# Altium schematic symbol library Basic_components_hrishi.SchLib: 32 symbols
Pins are listed as number, name and electrical type; pins without a type are passive.

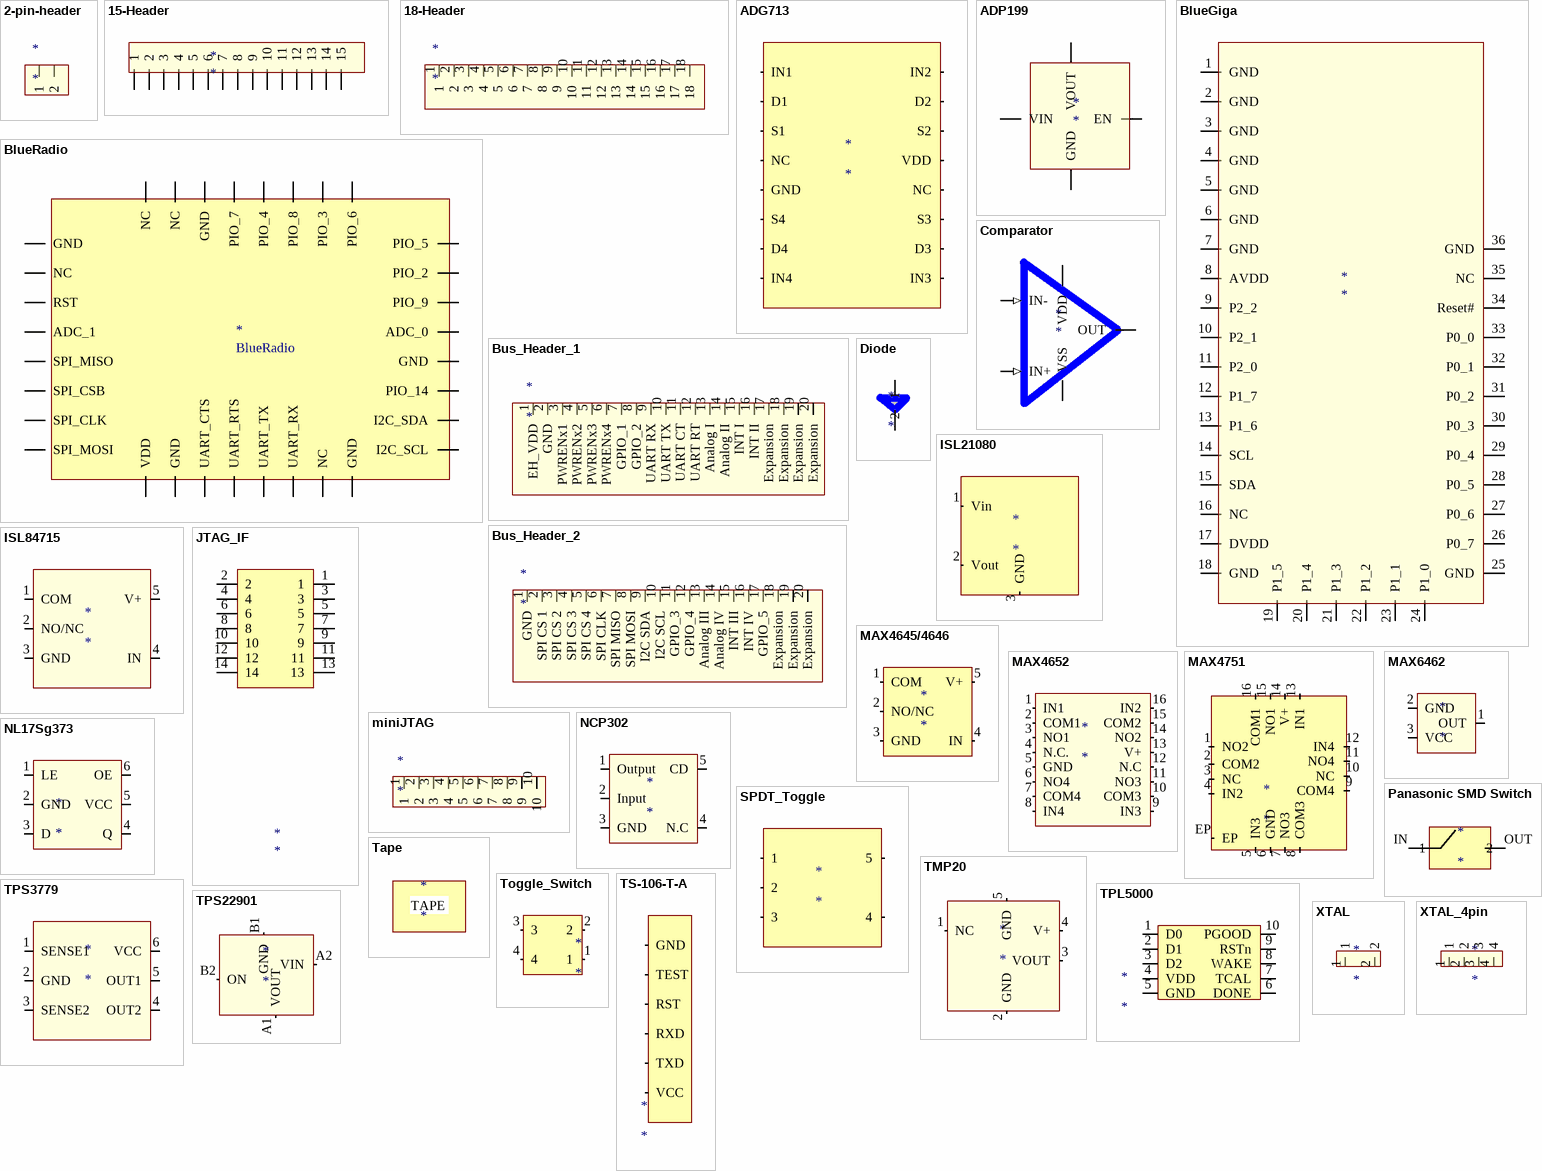
[diagram p0: symbols 2-pin-header to XTAL_4pin]

## 2-pin-header
designator *
footprint SMT 2-PIN
footprint 2-pin DIP
footprint Diode 2_DIP
pins: 1, 2

## 15-Header
designator *
footprint SIP-15
pins: ?1 1, ?2 2, ?3 3, ?4 4, ?5 5, ?6 6, ?7 7, ?8 8, ?9 9, ?10 10, ?11 11, ?12 12, ?13 13, ?14 14, ?15 15

## 18-Header
designator *
footprint SMT_18_micro_header
pins: 1, 2, 3, 4, 5, 6, 7, 8, 9, 10, 11, 12, 13, 14, 15, 16, 17, 18

## ADG713
designator *
footprint SOIC127P600X175-16N (SOIC, 16-Leads, Body 9.90x3.90mm, Pitch 1.27mm, IPC Medium Density)
pins: 1 IN1, 2 D1, 3 S1, 4 NC, 5 GND, 6 S4, 7 D4, 8 IN4, 9 IN3, 10 D3, 11 S3, 12 NC, 13 VDD, 14 S2, 15 D2, 16 IN2

## ADP199
designator *
footprint WLCSP2X2_77X77X56 (BGA, 4-Leads, Body 0.77x0.77mmx0.56mm, Pitch 0.40mm)
pins: ?1 VIN, ?2 VOUT, ?3 EN, ?4 GND

## BlueGiga
designator *
footprint BlueGiga
pins: 1 GND, 2 GND, 3 GND, 4 GND, 5 GND, 6 GND, 7 GND, 8 AVDD (power), 9 P2_2, 10 P2_1, 11 P2_0, 12 P1_7, 13 P1_6, 14 SCL, 15 SDA, 16 NC, 17 DVDD (power), 18 GND, 19 P1_5, 20 P1_4, 21 P1_3, 22 P1_2, 23 P1_1, 24 P1_0, 25 GND, 26 P0_7, 27 P0_6, 28 P0_5, 29 P0_4, 30 P0_3, 31 P0_2, 32 P0_1, 33 P0_0, 34 Reset#, 35 NC, 36 GND

## BlueRadio
designator *
footprint BlueRadio (BLES3A)
pins: ?1 GND (power), ?2 NC, ?3 RST, ?4 ADC_1, ?5 SPI_MISO, ?6 SPI_CSB, ?7 SPI_CLK, ?8 SPI_MOSI, ?9 VDD (power), ?10 GND (power), ?11 UART_CTS, ?12 UART_RTS, ?13 UART_TX, ?14 UART_RX, ?15 NC, ?16 GND (power), ?17 I2C_SCL, ?18 I2C_SDA, ?19 PIO_14, ?20 GND, ?21 ADC_0, ?22 PIO_9, ?23 PIO_2, ?24 PIO_5, ?25 PIO_6, ?26 PIO_3, ?27 PIO_8, ?28 PIO_4, ?29 PIO_7, ?30 GND (power), ?31 NC, ?32 NC

## Bus_Header_1
designator *
footprint SAMTEC_20_10x2
footprint SAMTEC_20_10x2_BOT
footprint Male Single row 20 pin header
footprint SMT 20 -pin single row female header
pins: 1 EH_VDD, 2 GND, 3 PWRENx1, 4 PWRENx2, 5 PWRENx3, 6 PWRENx4, 7 GPIO_1, 8 GPIO_2, 9 UART RX, 10 UART TX, 11 UART CT, 12 UART RT, 13 Analog I, 14 Analog II, 15 INT I, 16 INT II, 17 Expansion, 18 Expansion, 19 Expansion, 20 Expansion

## Bus_Header_2
designator *
footprint SAMTEC_20_10x2
footprint SAMTEC_20_10x2_BOT
footprint SMT 20 -pin single row female header
footprint Male Single row 20 pin header
pins: 1 GND, 2 SPI CS 1, 3 SPI CS 2, 4 SPI CS 3, 5 SPI CS 4, 6 SPI CLK, 7 SPI MISO, 8 SPI MOSI, 9 I2C SDA, 10 I2C SCL, 11 GPIO_3, 12 GPIO_4, 13 Analog III, 14 Analog IV, 15 INT III, 16 INT IV, 17 GPIO_5, 18 Expansion, 19 Expansion, 20 Expansion

## Comparator
designator *
footprint SOT-23-OT5_M (SOT23, 5-Leads, Body 2.9x1.7mm, Pitch 0.95mm, Lead Span 2.8mm, IPC Low Density)
pins: ?1 OUT (oc), ?2 VDD (power), ?3 VSS (power), ?4 IN- (in), ?5 IN+ (in)

## Diode
designator *
footprint TSOP127P250X110-2N (TSOP, 2-Leads, Body 1.30x1.70mm, Pitch 1.27mm, IPC Medium Density)
pins: 1, 2

## ISL21080
designator *
footprint SOT95P240X110-3N (SOT23, 3-Leads, Body 2.90x2.40mm, Pitch 0.95mm, IPC Medium Density)
pins: 1 Vin, 2 Vout, 3 GND

## ISL84715
designator *
footprint ISL84715
pins: 1 COM, 2 NO/NC, 3 GND, 4 IN, 5 V+

## JTAG_IF
designator *
footprint DIP14
footprint JTAG_14SMD
pins: 1, 2, 3, 4, 5, 6, 7, 8, 9, 10, 11, 12, 13, 14

## MAX4645/4646
designator *
footprint SOT95P280X145-5N (SOT23, 5-Leads, Body 2.90x2.80mm, Pitch 0.95mm, IPC Medium Density)
pins: 1 COM, 2 NO/NC, 3 GND, 4 IN, 5 V+

## MAX4652
designator *
footprint MAX4652 (TSSOP, 16-Leads, Body 5.00x4.40mm, Pitch 0.65mm, Thermal Pad 3.15.2x3.15.2mm, IPC Medium Density)
pins: 1 IN1, 2 COM1, 3 NO1, 4 N.C., 5 GND, 6 NO4, 7 COM4, 8 IN4, 9 IN3, 10 COM3, 11 NO3, 12 N.C, 13 V+, 14 NO2, 15 COM2, 16 IN2

## MAX4751
designator *
footprint 16QFN
pins: 1 NO2, 2 COM2, 3 NC, 4 IN2, 5 IN3, 6 GND, 7 NO3, 8 COM3, 9 COM4, 10 NC, 11 NO4, 12 IN4, 13 IN1, 14 V+, 15 NO1, 16 COM1, EP

## MAX6462
designator *
footprint MAX6462
pins: 1 OUT, 2 GND, 3 VCC

## miniJTAG
designator *
footprint SMT10pin_micro
pins: 1, 2, 3, 4, 5, 6, 7, 8, 9, 10

## NCP302
designator *
footprint NCP302
pins: 1 Output, 2 Input, 3 GND, 4 N.C, 5 CD

## NL17Sg373
designator *
footprint SOT65P210X110-6N (SOT23, 6-Leads, Body 2.00x2.10mm, Pitch 0.65mm, IPC Medium Density)
pins: 1 LE, 2 GND, 3 D, 4 Q, 5 VCC, 6 OE

## Panasonic SMD Switch
designator *
footprint 2x2SMD; pin to pad IN>1 OUT>3
pins: IN 1, OUT 2

## SPDT_Toggle
designator *
footprint SOP5-right
pins: 1, 2, 3, 4, 5

## Tape
designator *
footprint Tape
text: TAPE /

## TMP20
designator *
footprint TMP20
pins: 1 NC, 2 GND, 3 VOUT, 4 V+, 5 GND

## Toggle_Switch
designator *
footprint Toggle_Sw
pins: 1, 2, 3, 4

## TPL5000
designator *
footprint SOP127P600-8N (Used for TPL5000)
pins: 1 D0, 2 D1, 3 D2, 4 VDD, 5 GND, 6 DONE, 7 TCAL, 8 WAKE, 9 RSTn, 10 PGOOD

## TPS3779
designator *
footprint TPS3779
pins: 1 SENSE1, 2 GND, 3 SENSE2, 4 OUT2, 5 OUT1, 6 VCC

## TPS22901
designator *
footprint TPS22901
pins: A1 VOUT, A2 VIN, B1 GND, B2 ON

## TS-106-T-A
designator *
footprint 6-pin DIP
pins: 1 VCC, 2 TXD, 3 RXD, 4 RST, 5 TEST, 6 GND

## XTAL
designator *
footprint Crystal_32
pins: 1, 2

## XTAL_4pin
designator *
footprint CRYSTAL_MHZ
pins: 1, 2, 3, 4